# Altium integrated library AUX_v7_5.IntLib: 14 symbols
Pins are listed as number, name and electrical type; pins without a type are passive.

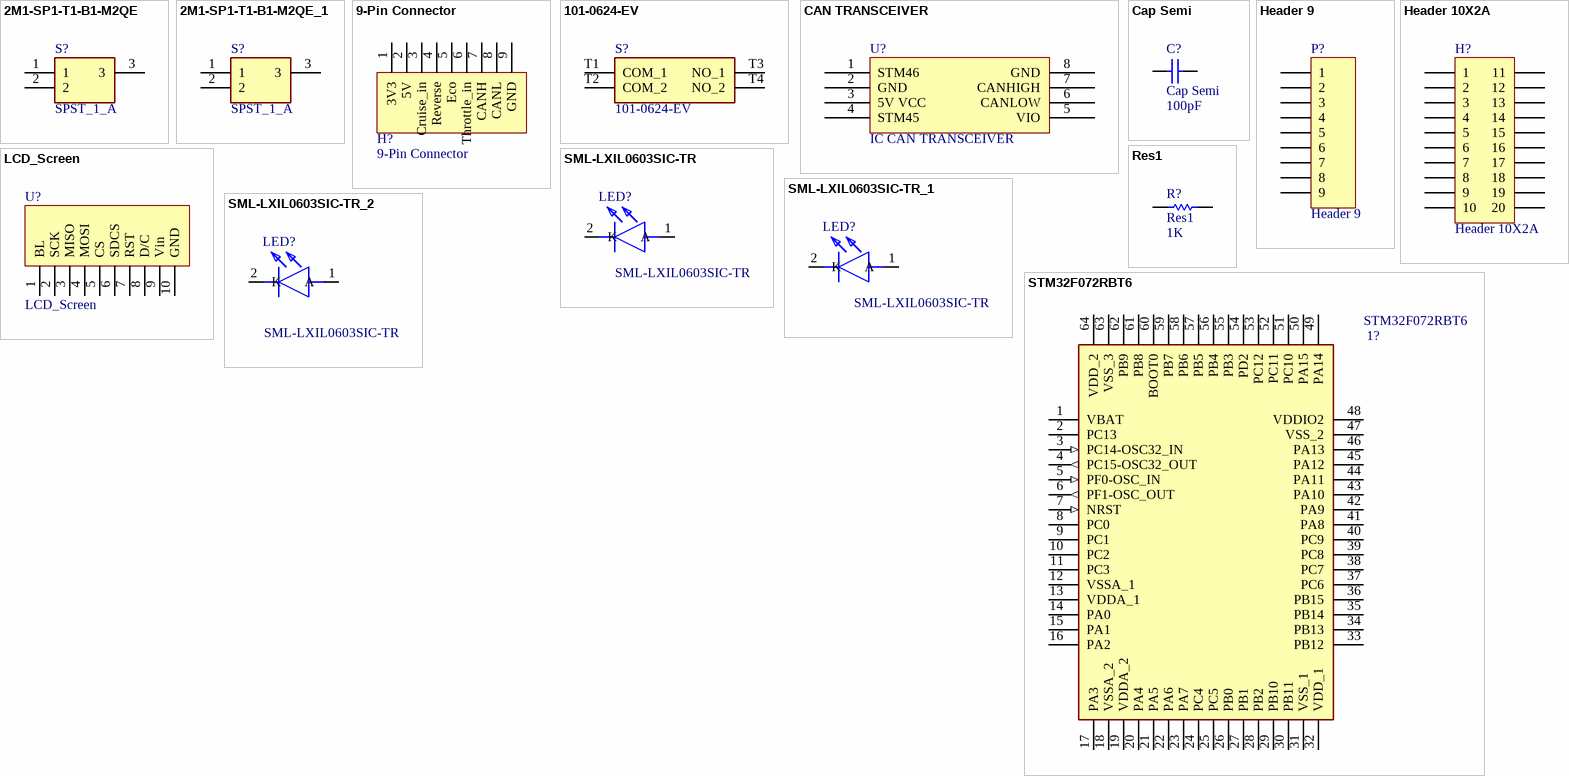
[diagram p0: symbols 2M1-SP1-T1-B1-M2QE to STM32F072RBT6]

## 2M1-SP1-T1-B1-M2QE
designator S?, comment SPST_1_A
Switch; Manufacturer_Name: Carling Technologies; Manufacturer_Part_Number: 2M1-SP1-T1-B1-M2QE; Datasheet Link: https://componentsearchengine.com/Datasheets/1/2M1-SP1-T1-B1-M2QE.pdf; Height: 28.2mm; Mouser Part Number: 691-2M1-SP1-T1B1M2QE; Mouser Price/Stock: https://www.mouser.com/Search/Refine.aspx?Keyword=691-2M1-SP1-T1B1M2QE
footprint 2M1SP3T1B1M2QE
pins: 1, 2, 3

## 2M1-SP1-T1-B1-M2QE_1
designator S?, comment SPST_1_A
Switch; Manufacturer_Name: Carling Technologies; Manufacturer_Part_Number: 2M1-SP1-T1-B1-M2QE; Datasheet Link: https://componentsearchengine.com/Datasheets/1/2M1-SP1-T1-B1-M2QE.pdf; Height: 28.2mm; Mouser Part Number: 691-2M1-SP1-T1B1M2QE; Mouser Price/Stock: https://www.mouser.com/Search/Refine.aspx?Keyword=691-2M1-SP1-T1B1M2QE
footprint 2M1SP3T1B1M2QE
pins: 1, 2, 3

## 9-Pin Connector
designator H?
footprint 9-Pin
footprint Rt_Angle_9-Pin
pins: 1 3V3, 2 5V, 3 Cruise_in, 4 Reverse, 5 Eco, 6 Throttle_in, 7 CANH, 8 CANL, 9 GND

## 101-0624-EV
designator S?
Switch; Manufacturer_Name: Mountain Switch; Datasheet Link: https://componentsearchengine.com/Datasheets/1/101-0624-EV.pdf; Height: 7.3mm; Mouser Part Number: 101-0624-EV; Mouser Price/Stock: https://www.mouser.com/Search/Refine.aspx?Keyword=101-0624-EV; Manufacturer_Part_Number: 101-0624-EV
footprint 1010624EV
pins: T1 COM_1, T2 COM_2, T3 NO_1, T4 NO_2

## CAN TRANSCEIVER
designator U?, comment IC CAN TRANSCEIVER
footprint CAN TRANSCEIVER (SOIC, 8-Leads, Body 4.91x3.90mm, Pitch 1.27mm, IPC Medium Density)
pins: 1 STM46, 2 GND, 3 5V VCC, 4 STM45, 5 VIO, 6 CANLOW, 7 CANHIGH, 8 GND

## Cap Semi
designator C?  value 100pF
Capacitor (Semiconductor SIM Model); Published: 8-Jun-2000; LatestRevisionDate: 29-May-2009; LatestRevisionNote: IPC-7351 Footprint Added.; PackageReference: C1206; Publisher: Altium Limited; PackageDescription: Chip Capacitor
footprint C1206 (Chip Capacitor, Body 3.2x1.6mm, IPC High Density)
footprint 0402 (Chip Capacitor, Body 1.0x0.5mm, IPC High Density)
footprint C2512 (Chip Capacitor, Body 2.54x1.27mm, IPC High Density)
footprint 1608[0603] (Chip Capacitor, Body 1.6x0.8mm, IPC High Density)
footprint C1210 (Chip Capacitor, Body 3.2x2.5mm, IPC High Density)
simulation model CAP (Semiconductor Capacitor)
signal-integrity model Cap Semi
pins: 1, 2

## Header 9
designator P?
Header, 9-Pin; LatestRevisionDate: 17-Jul-2002; LatestRevisionNote: Re-released for DXP Platform.; Publisher: Altium Limited
footprint HDR1X9 (Connector; Header; 9 Position)
signal-integrity model Connector
pins: 1, 2, 3, 4, 5, 6, 7, 8, 9

## Header 10X2A
designator H?
Header, 10-Pin, Dual row; LatestRevisionDate: 17-Jul-2002; LatestRevisionNote: Re-released for DXP Platform.; Publisher: Altium Limited
footprint HDR2X10_CEN (Connector; Header; 10x2 Position)
signal-integrity model Connector
pins: 1, 2, 3, 4, 5, 6, 7, 8, 9, 10, 11, 12, 13, 14, 15, 16, 17, 18, 19, 20

## LCD_Screen
designator U?
LCD Display Screen
footprint LCD_Screen
pins: 1 BL, 2 SCK, 3 MISO, 4 MOSI, 5 CS, 6 SDCS, 7 RST, 8 D/C, 9 Vin, 10 GND

## Res1
designator R?  value 1K
Resistor; Published: 8-Jun-2000; LatestRevisionDate: 17-Jul-2002; LatestRevisionNote: Re-released for DXP Platform.; PackageReference: AXIAL-0.3; Publisher: Altium Limited; PackageDescription: Axial Device, Thru-Hole; 2 Leads; 0.3 in Pin Spacing
footprint AXIAL-0.3 (Axial Device, Thru-Hole; 2 Leads; 0.3 in Pin Spacing)
simulation model RESISTOR (Resistor)
signal-integrity model Res
pins: 1, 2

## SML-LXIL0603SIC-TR
designator LED?
Cruise; Manufacturer_Name: Lumex; Datasheet Link: https://componentsearchengine.com/Datasheets/1/SML-LXIL0603SIC-TR.pdf; Height: 1.15mm; Mouser2 Part Number: 696-SMLLXIL0603SICTR; Mouser2 Price/Stock: https://www.mouser.com/Search/Refine.aspx?Keyword=696-SMLLXIL0603SICTR; Manufacturer_Part_Number: SML-LXIL0603SIC-TR; ComponentLink1Description: Red; ComponentLink1URL: https://www.mouser.com/ProductDetail/Lumex/SML-LXIL0603SIC-TR?qs=sGAEpiMZZMseGfSY3csMkdgyOOAg6kv2wBhnt1KKZ0Ir1Jo46E1V3Q%3D%3D; ComponentLink2Description: Green; ComponentLink2URL: https://www.mouser.com/ProductDetail/Lumex/SML-LXIL0603UPGCTR?qs=sGAEpiMZZMseGfSY3csMkdgyOOAg6kv2sRjHcnaWQfp%2F9Np9qK5zmw%3D%3D; ComponentLink3Description: Blue; ComponentLink3URL: https://www.mouser.com/ProductDetail/Lumex/SML-LXIL0603USBCTR?qs=sGAEpiMZZMseGfSY3csMkdgyOOAg6kv2YTCj%2FpdrnHQXx1e9lymIRQ%3D%3D
footprint SMLLXIL0603SICTR
footprint LED thru hole (WP710A10QBC/D or WP7113LVBC/D)
pins: 1 A, 2 K

## SML-LXIL0603SIC-TR_1
designator LED?, comment SML-LXIL0603SIC-TR
Headlights; Manufacturer_Name: Lumex; Datasheet Link: https://componentsearchengine.com/Datasheets/1/SML-LXIL0603SIC-TR.pdf; Height: 1.15mm; Mouser2 Part Number: 696-SMLLXIL0603SICTR; Mouser2 Price/Stock: https://www.mouser.com/Search/Refine.aspx?Keyword=696-SMLLXIL0603SICTR; Manufacturer_Part_Number: SML-LXIL0603SIC-TR; ComponentLink1Description: Red; ComponentLink1URL: https://www.mouser.com/ProductDetail/Lumex/SML-LXIL0603SIC-TR?qs=sGAEpiMZZMseGfSY3csMkdgyOOAg6kv2wBhnt1KKZ0Ir1Jo46E1V3Q%3D%3D; ComponentLink2Description: Green; ComponentLink2URL: https://www.mouser.com/ProductDetail/Lumex/SML-LXIL0603UPGCTR?qs=sGAEpiMZZMseGfSY3csMkdgyOOAg6kv2sRjHcnaWQfp%2F9Np9qK5zmw%3D%3D; ComponentLink3Description: Blue; ComponentLink3URL: https://www.mouser.com/ProductDetail/Lumex/SML-LXIL0603USBCTR?qs=sGAEpiMZZMseGfSY3csMkdgyOOAg6kv2YTCj%2FpdrnHQXx1e9lymIRQ%3D%3D
footprint SMLLXIL0603SICTR
footprint LED thru hole (WP710A10QBC/D or WP7113LVBC/D)
pins: 1 A, 2 K

## SML-LXIL0603SIC-TR_2
designator LED?, comment SML-LXIL0603SIC-TR
Hazards; Manufacturer_Name: Lumex; Datasheet Link: https://componentsearchengine.com/Datasheets/1/SML-LXIL0603SIC-TR.pdf; Height: 1.15mm; Mouser2 Part Number: 696-SMLLXIL0603SICTR; Mouser2 Price/Stock: https://www.mouser.com/Search/Refine.aspx?Keyword=696-SMLLXIL0603SICTR; Manufacturer_Part_Number: SML-LXIL0603SIC-TR; ComponentLink1Description: Red; ComponentLink1URL: https://www.mouser.com/ProductDetail/Lumex/SML-LXIL0603SIC-TR?qs=sGAEpiMZZMseGfSY3csMkdgyOOAg6kv2wBhnt1KKZ0Ir1Jo46E1V3Q%3D%3D; ComponentLink2Description: Green; ComponentLink2URL: https://www.mouser.com/ProductDetail/Lumex/SML-LXIL0603UPGCTR?qs=sGAEpiMZZMseGfSY3csMkdgyOOAg6kv2sRjHcnaWQfp%2F9Np9qK5zmw%3D%3D; ComponentLink3Description: Blue; ComponentLink3URL: https://www.mouser.com/ProductDetail/Lumex/SML-LXIL0603USBCTR?qs=sGAEpiMZZMseGfSY3csMkdgyOOAg6kv2YTCj%2FpdrnHQXx1e9lymIRQ%3D%3D
footprint SMLLXIL0603SICTR
footprint LED thru hole (WP710A10QBC/D or WP7113LVBC/D)
pins: 1 A, 2 K

## STM32F072RBT6
designator 1?
Integrated Circuit; Manufacturer_Name: STMicroelectronics; Datasheet Link: https://componentsearchengine.com/Datasheets/1/STM32F072RBT6.pdf; Height: 1.6mm; Mouser Part Number: 511-STM32F072RBT6; Mouser Price/Stock: https://www.mouser.com/Search/Refine.aspx?Keyword=511-STM32F072RBT6; Manufacturer_Part_Number: STM32F072RBT6
footprint QFP50P1200X1200X160-64N
pins: 1 VBAT, 2 PC13, 3 PC14-OSC32_IN (in), 4 PC15-OSC32_OUT (out), 5 PF0-OSC_IN (in), 6 PF1-OSC_OUT (out), 7 NRST (in), 8 PC0, 9 PC1, 10 PC2, 11 PC3, 12 VSSA_1 (power), 13 VDDA_1 (power), 14 PA0, 15 PA1, 16 PA2, 17 PA3, 18 VSSA_2 (power), 19 VDDA_2 (power), 20 PA4, 21 PA5, 22 PA6, 23 PA7, 24 PC4, 25 PC5, 26 PB0, 27 PB1, 28 PB2, 29 PB10, 30 PB11, 31 VSS_1 (power), 32 VDD_1 (power), 33 PB12, 34 PB13, 35 PB14, 36 PB15, 37 PC6, 38 PC7, 39 PC8, 40 PC9, 41 PA8, 42 PA9, 43 PA10, 44 PA11, 45 PA12, 46 PA13, 47 VSS_2 (power), 48 VDDIO2 (power), 49 PA14, 50 PA15, 51 PC10, 52 PC11, 53 PC12, 54 PD2, 55 PB3, 56 PB4, 57 PB5, 58 PB6, 59 PB7, 60 BOOT0, 61 PB8, 62 PB9, 63 VSS_3 (power), 64 VDD_2 (power)